# EAGLE library part MOTOR_PINOUT (library StevenV1)
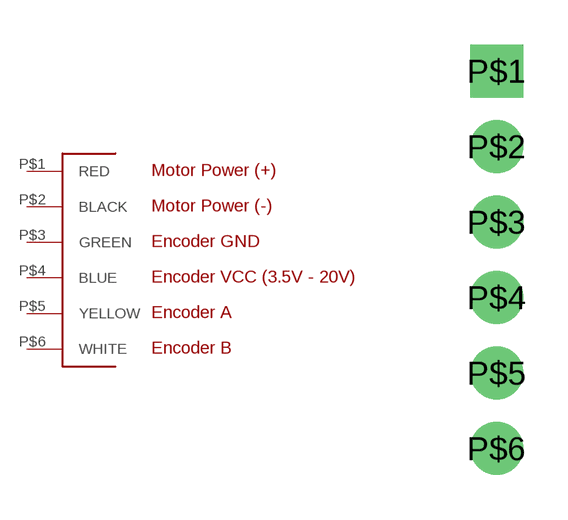
[diagram p1: symbol with the pads of MOTOR_PINOUT-PAC; footprint MOTOR_PINOUT-PAC]

Designator prefix -

## MOTOR_PINOUT  [MOTOR_PINOUT-PAC]
P$1  RED
P$2  BLACK
P$3  GREEN
P$4  BLUE
P$5  YELLOW
P$6  WHITE

## Footprint MOTOR_PINOUT-PAC (pad centres in mm)
drill 0.8 pad 1.778 square: P$1 0,6.35
drill 0.8 pad 1.778: P$2 0,3.81; P$3 0,1.27; P$4 0,-1.27; P$5 0,-3.81; P$6 0,-6.35